# Altium schematic symbol library GRM188C81C106MA73D.SchLib: 1 symbol
Pins are listed as number, name and electrical type; pins without a type are passive.

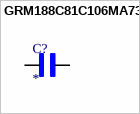
[diagram p0: symbol GRM188C81C106MA73D]

## GRM188C81C106MA73D
designator C?
MF: {'manufacturer': u'Murata'}; MP: GRM188C81C106MA73D; Package: None; Price: None; Value: *; Availability: Unavailable
footprint CAPC1608X100N
pins: 1, 2